# EAGLE library part MINIUSBSHIELD (library ads4)
Mini-USB Type B receptacle with 4 shield pins
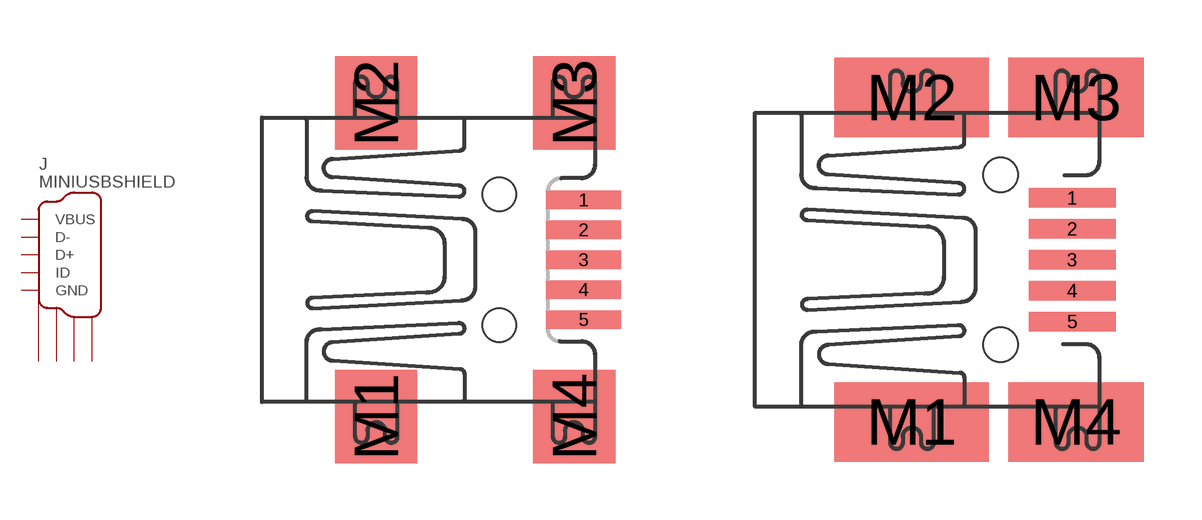
[diagram p83: symbol with the pads of UX60-MB-5ST; footprints UX60-MB-5ST, 67503-1020]

Designator prefix J

## MINIUSBSHIELDUX60-MB-5ST  [UX60-MB-5ST]
1  VBUS  pas
2  D-  pas
3  D+  pas
4  ID  pas
5  GND  pas
M1  SHIELD1  pas
M2  SHIELD2  pas
M3  SHIELD3  pas
M4  SHIELD4  pas

## MINIUSBSHIELD67503-1020  [67503-1020]
Pads as for UX60-MB-5ST

## Footprint UX60-MB-5ST (pad centres in mm)
MINI USB Connector HI-SPEED Certified Metal Shield SMT Type With Positioning Post Source: http://www.hirose.co.jp/cataloge_hp/e24000019.pdf Copied from con-hirose.lbr library
smd 2 x 0.5: 1 2.25,1.6; 2 2.25,0.8; 3 2.25,0; 4 2.25,-0.8; 5 2.25,-1.6
smd 2.2 x 2.5: M1 -3.3,-4.2; M2 -3.3,4.2; M3 2,4.2; M4 2,-4.2
hole 0.9 at 0,-1.75
hole 0.9 at 0,1.75

## Footprint 67503-1020 (pad centres in mm)
Molex 067503-1020 Mini-B USB receptacle with locating pins
smd 2.25 x 0.5: 1 2.25,1.6; 2 2.25,0.8; 3 2.25,0; 4 2.25,-0.8; 5 2.25,-1.6
smd 4 x 2.05: M1 -1.9,-4.2; M2 -1.9,4.2
smd 3.5 x 2.05: M3 2.35,4.2; M4 2.35,-4.2
hole 0.9 at 0.4,-2.2
hole 0.9 at 0.4,2.2